# EAGLE library part OPA2320AIDGKT_NOVAL (library novaXR)
OPA2320AIDGKT, Dual Operational Amplifier Precision, 20MHz R-R, 1.8 to 5.5V, 8-Pin MSOP Source: Datasheet <http://www.ti.com/lit/ds/symlink/opa2320.pdf>
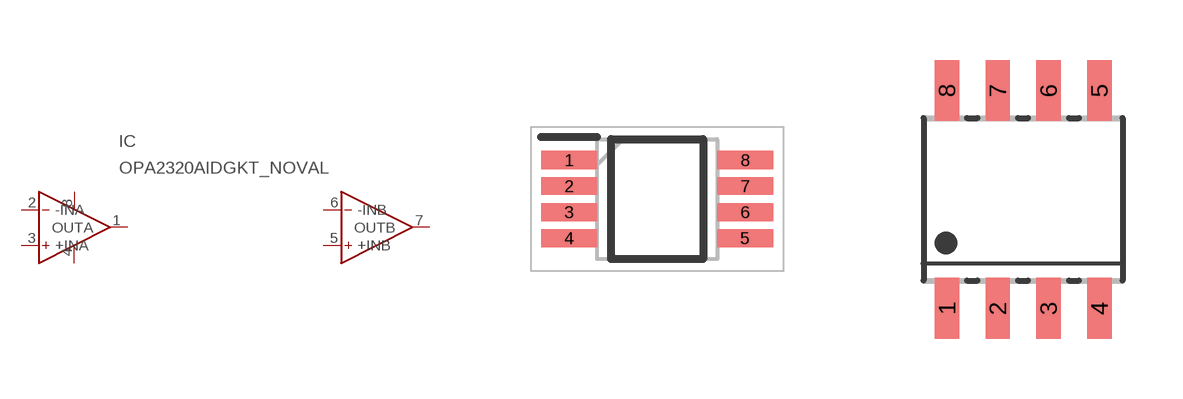
[diagram p6: symbol with the pads of SOP65P490X110-8N; footprints SOP65P490X110-8N, 8-SOIC]

Designator prefix IC

## OPA2320AIDGKT_NOVAL (DESCRIPTION: OPA2320AIDGKT, Dual Operational Amplifier Precision, 20MHz R-R, 1.8 to 5.5V, 8-Pin MSOP; HEIGHT: 1.1mm; MANUFACTURER_NAME: Texas Instruments; MANUFACTURER_PART_NUMBER: OPA2320AIDGKT; MOUSER_PART_NUMBER: 595-OPA2320AIDGKT; MOUSER_PRICE-STOCK: https://www.mouser.com/Search/Refine.aspx?Keyword=595-OPA2320AIDGKT; RS_PART_NUMBER: 7300607P; RS_PRICE-STOCK: http://uk.rs-online.com/web/p/products/7300607P)  [SOP65P490X110-8N]
1  OUTA  out
2  -INA  in
3  +INA  in
4  V-
5  +INB  in
6  -INB  in
7  OUTB  out
8  V+

## OPA2320AIDGKT_NOVAL8-SOIC  [8-SOIC]
Pads as for SOP65P490X110-8N

## OPA2320AIDGKT_NOVAL8-SOIC-L  [D8-L]
Pads as for SOP65P490X110-8N

## Footprint SOP65P490X110-8N (pad centres in mm)
DGK (S-PDSO-G8)
smd 1.4 x 0.45: 1 -2.2,0.975; 2 -2.2,0.325; 3 -2.2,-0.325; 4 -2.2,-0.975; 5 2.2,-0.975; 6 2.2,-0.325; 7 2.2,0.325; 8 2.2,0.975

## Footprint 8-SOIC (pad centres in mm)
smd 0.61 x 1.52: 1 -1.905,-2.723; 2 -0.635,-2.723; 3 0.635,-2.723; 4 1.905,-2.723; 5 1.905,2.723; 6 0.635,2.723; 7 -0.635,2.723; 8 -1.905,2.723

## Footprint D8-L (pad centres in mm)
smd 1.676 x 0.508: 1 -2.413,1.905; 2 -2.413,0.635; 3 -2.413,-0.635; 4 -2.413,-1.905; 5 2.413,-1.905; 6 2.413,-0.635; 7 2.413,0.635; 8 2.413,1.905